# EAGLE library part SN74HC08 (library sn74hc08)
Quad And gate sn74hc08-q1
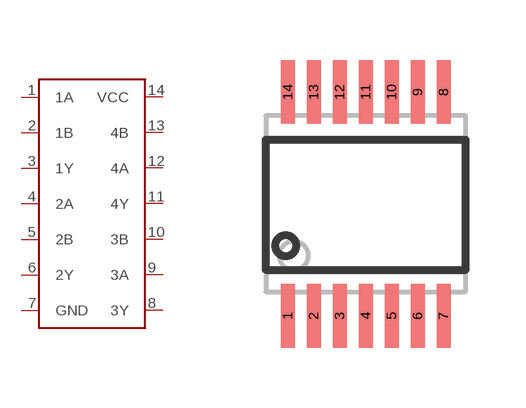
[diagram p0: symbol with the pads of TSSOP14; footprint TSSOP14]

Designator prefix -

## SN74HC08  [TSSOP14]
1  1A  in
2  1B  in
3  1Y  out
4  2A  in
5  2B  in
6  2Y  out
7  GND
8  3Y  out
9  3A  in
10  3B  in
11  4Y  out
12  4A  in
13  4B  in
14  VCC

## Footprint TSSOP14 (pad centres in mm)
smd 0.35 x 1.6: 1 -1.95,-2.8; 2 -1.3,-2.8; 3 -0.65,-2.8; 4 0,-2.8; 5 0.65,-2.8; 6 1.3,-2.8; 7 1.95,-2.8; 8 1.95,2.8; 9 1.3,2.8; 10 0.65,2.8; 11 0,2.8; 12 -0.65,2.8; 13 -1.3,2.8; 14 -1.95,2.8